# Altium schematic symbol library MMBT3904 RF.SchLib: 1 symbol
Pins are listed as number, name and electrical type; pins without a type are passive.

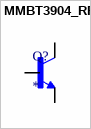
[diagram p0: symbol MMBT3904_RF]

## MMBT3904_RF
designator Q?
Bipolar (BJT) Transistor NPN 65 V 100 mA 100MHz 200 mW Surface Mount SOT-23; MP: MMBT3904_RF; MF: {'manufacturer': u'Taiwan Semiconductor'}; Availability: Unavailable; Price: None; Package: None; Value: *
footprint SOT95P237X112-3N
pins: 1 B, 2 E, 3 C